# Altium integrated library Rosenberger P-SMP.IntLib: 13 symbols
Pins are listed as number, name and electrical type; pins without a type are passive.

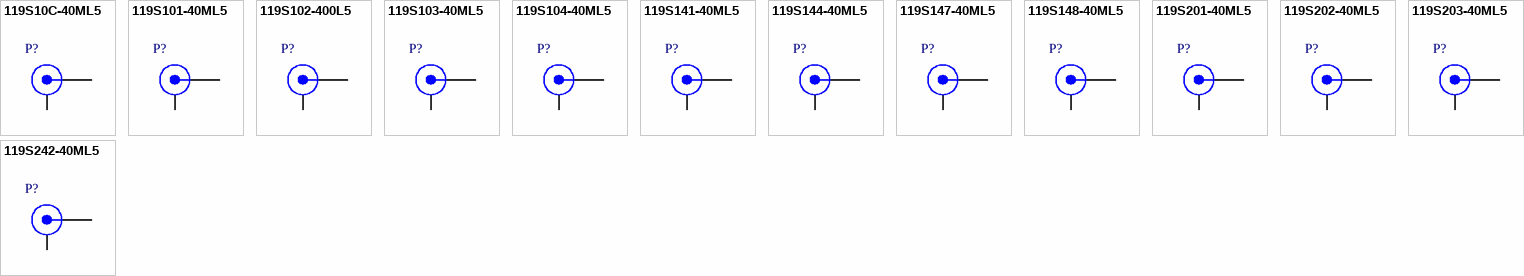
[diagram p0: symbols 119S10C-40ML5 to 119S242-40ML5]

## 119S10C-40ML5
designator P?
P-SMP Straight Plug, Pin in Paste, EMI Shield, High Power, Low PIM, Limited Detent, Small, Up to 10 GHz, -65 to 165 degC; PartNumber: 119S10C-40ML5; Design Note: Footprint in library is a generic example - only application specific footprint delivers High Performance; DatasheetVersion: a00; PackageVersion: a00; PackageReference: 119S10C-40ML5; PackageDescription: P-SMP Straight Plug, Pin in Paste, 9.62 x 9.591 x 5.48 mm; Detention force: limited detent; Mounting Technology: Pin-in-Paste; Lock-in Range: small; ComponentLink1Description: Manufacturer URL; ComponentLink1URL: http://www.rosenberger.de; ComponentLink2Description: Datasheet; ComponentLink2URL: http://rosenberger.de/ok/images/documents/db/119S10C-40ML5.pdf; ComponentLink3Description: Package Specification; ComponentLink3URL: http://rosenberger.de/ok/images/documents/db/119S10C-40ML5.pdf; ComponentLink4Description: Series Overview / Design Note; ComponentLink4URL: http://rosenberger.de/ok/images/documents/spez/119.pdf; ComponentLink5Description: Webshop / RFQ; ComponentLink5URL: http://www.rosenberger.com/en/contact/sales/
footprint ROS-119S10C-40ML5_V (P-SMP Straight Plug, Pin in Paste, 9.62x9.591x5.48mm, Rosenberger Recommended)
pins: 1, MH

## 119S101-40ML5
designator P?
P-SMP Straight Plug, High Power, Low PIM, Limited Detent, Small, Up to 10 GHz, -65 to 165 degC; PartNumber: 119S101-40ML5; Design Note: Footprint in library is a generic example - only application specific footprint delivers High Performance; DatasheetVersion: d00; PackageVersion: d00; PackageReference: 119S101-40ML5; PackageDescription: P-SMP Straight Plug, 7.00 x 7.00 x 5.48 mm; Detention force: limited detent; Mounting Technology: Surface Mount; Lock-in Range: small; ComponentLink1Description: Manufacturer URL; ComponentLink1URL: http://www.rosenberger.de; ComponentLink2Description: Datasheet; ComponentLink2URL: http://rosenberger.de/ok/images/documents/db/119S101-40ML5.pdf; ComponentLink3Description: Package Specification; ComponentLink3URL: http://rosenberger.de/ok/images/documents/db/119S101-40ML5.pdf; ComponentLink4Description: Series Overview / Design Note; ComponentLink4URL: http://rosenberger.de/ok/images/documents/spez/119.pdf; ComponentLink5Description: Webshop / RFQ; ComponentLink5URL: http://www.rosenberger.com/en/contact/sales/
footprint ROS-119S101-40ML5_V (P-SMP Straight Plug, 7.00x7.00x5.48mm, Rosenberger Recommended)
pins: 1, MP

## 119S102-400L5
designator P?
P-SMP Straight Plug, High Power, Low PIM, Limited Detent, Small, Up to 10 GHz, -65 to 165 degC; PartNumber: 119S102-400L5; Design Note: Footprint in library is a generic example - only application specific footprint delivers High Performance; DatasheetVersion: d00; PackageVersion: d00; PackageReference: 119S102-400L5; PackageDescription: P-SMP Straight Plug, 7.00 x 7.00 x 5.88 mm; Detention force: limited detent; Mounting Technology: Through Hole; Lock-in Range: small; ComponentLink1Description: Manufacturer URL; ComponentLink1URL: http://www.rosenberger.de; ComponentLink2Description: Datasheet; ComponentLink2URL: http://rosenberger.de/ok/images/documents/db/119S102-400L5.pdf; ComponentLink3Description: Package Specification; ComponentLink3URL: http://rosenberger.de/ok/images/documents/db/119S102-400L5.pdf; ComponentLink4Description: Series Overview / Design Note; ComponentLink4URL: http://rosenberger.de/ok/images/documents/spez/119.pdf; ComponentLink5Description: Webshop / RFQ; ComponentLink5URL: http://www.rosenberger.com/en/contact/sales/
footprint ROS-119S102-400L5_V (P-SMP Straight Plug, 7.00x7.00x5.88mm, Rosenberger Recommended)
pins: 1, MH

## 119S103-40ML5
designator P?
P-SMP Straight Plug, Pin in Paste, High Power, Low PIM, Limited Detent, Small, Up to 10 GHz, -65 to 165 degC; PartNumber: 119S103-40ML5; Design Note: Footprint in library is a generic example - only application specific footprint delivers High Performance; DatasheetVersion: f00; PackageVersion: f00; PackageReference: 119S103-40ML5; PackageDescription: P-SMP Straight Plug, Pin in Paste, 7.972 x 7.00 x 5.48 mm; Detention force: limited detent; Mounting Technology: Pin-in-Paste; Lock-in Range: small; ComponentLink1Description: Manufacturer URL; ComponentLink1URL: http://www.rosenberger.de; ComponentLink2Description: Datasheet; ComponentLink2URL: http://rosenberger.de/ok/images/documents/db/119S103-40ML5.pdf; ComponentLink3Description: Package Specification; ComponentLink3URL: http://rosenberger.de/ok/images/documents/db/119S103-40ML5.pdf; ComponentLink4Description: Series Overview / Design Note; ComponentLink4URL: http://rosenberger.de/ok/images/documents/spez/119.pdf; ComponentLink5Description: Webshop / RFQ; ComponentLink5URL: http://www.rosenberger.com/en/contact/sales/
footprint ROS-119S103-40ML5_V (P-SMP Straight Plug, Pin in Paste, 7.972x7.00x5.48mm, Rosenberger Recommended)
pins: 1, MH

## 119S104-40ML5
designator P?
P-SMP Straight Plug, High Power, Low PIM, Limited Detent, Small, Up to 10 GHz, -65 to 165 degC; PartNumber: 119S104-40ML5; Design Note: Footprint in library is a generic example - only application specific footprint delivers High Performance; DatasheetVersion: e00; PackageVersion: e00; PackageReference: 119S104-40ML5; PackageDescription: P-SMP Straight Plug, 7.00 x 7.00 x 5.50 mm; Detention force: limited detent; Mounting Technology: Surface Mount; Lock-in Range: small; ComponentLink1Description: Manufacturer URL; ComponentLink1URL: http://www.rosenberger.de; ComponentLink2Description: Datasheet; ComponentLink2URL: http://rosenberger.de/ok/images/documents/db/119S104-40ML5.pdf; ComponentLink3Description: Package Specification; ComponentLink3URL: http://rosenberger.de/ok/images/documents/db/119S104-40ML5.pdf; ComponentLink4Description: Series Overview / Design Note; ComponentLink4URL: http://rosenberger.de/ok/images/documents/spez/119.pdf; ComponentLink5Description: Webshop / RFQ; ComponentLink5URL: http://www.rosenberger.com/en/contact/sales/
footprint ROS-119S104-40ML5_V (P-SMP Straight Plug, 7.00x7.00x5.50mm, Rosenberger Recommended)
pins: 1, MP

## 119S141-40ML5
designator P?
P-SMP Straight Plug, High Power, Low PIM, Smooth Bore, Catchers-Mitt, Up to 10 GHz, -65 to 165 degC; PartNumber: 119S141-40ML5; Design Note: Footprint in library is a generic example - only application specific footprint delivers High Performance; DatasheetVersion: c00; PackageVersion: c00; PackageReference: 119S141-40ML5; PackageDescription: P-SMP Straight Plug, 7.00 x 7.00 x 5.50 mm; Detention force: smooth bore; Mounting Technology: Surface Mount; Lock-in Range: catchers-mitt; ComponentLink1Description: Manufacturer URL; ComponentLink1URL: http://www.rosenberger.de; ComponentLink2Description: Datasheet; ComponentLink2URL: http://rosenberger.de/ok/images/documents/db/119S141-40ML5.pdf; ComponentLink3Description: Package Specification; ComponentLink3URL: http://rosenberger.de/ok/images/documents/db/119S141-40ML5.pdf; ComponentLink4Description: Series Overview / Design Note; ComponentLink4URL: http://rosenberger.de/ok/images/documents/spez/119.pdf; ComponentLink5Description: Webshop / RFQ; ComponentLink5URL: http://www.rosenberger.com/en/contact/sales/
footprint ROS-119S141-40ML5_V (P-SMP Straight Plug, 7.00x7.00x5.50mm, Rosenberger Recommended)
pins: 1, MP

## 119S144-40ML5
designator P?
P-SMP Straight Plug, High Power, Low PIM, Smooth Bore, Catchers-Mitt, Up to 10 GHz, -65 to 165 degC; PartNumber: 119S144-40ML5; Design Note: Footprint in library is a generic example - only application specific footprint delivers High Performance; DatasheetVersion: g00; PackageVersion: g00; PackageReference: 119S144-40ML5; PackageDescription: P-SMP Straight Plug, 7.00 x 7.00 x 5.50 mm; Detention force: smooth bore; Mounting Technology: Surface Mount; Lock-in Range: catchers-mitt; ComponentLink1Description: Manufacturer URL; ComponentLink1URL: http://www.rosenberger.de; ComponentLink2Description: Datasheet; ComponentLink2URL: http://rosenberger.de/ok/images/documents/db/119S144-40ML5.pdf; ComponentLink3Description: Package Specification; ComponentLink3URL: http://rosenberger.de/ok/images/documents/db/119S144-40ML5.pdf; ComponentLink4Description: Series Overview / Design Note; ComponentLink4URL: http://rosenberger.de/ok/images/documents/spez/119.pdf; ComponentLink5Description: Webshop / RFQ; ComponentLink5URL: http://www.rosenberger.com/en/contact/sales/
footprint ROS-119S144-40ML5_V (P-SMP Straight Plug, 7.00x7.00x5.50mm, Rosenberger Recommended)
pins: 1, MP

## 119S147-40ML5
designator P?
P-SMP Straight Plug, Wide Lock-In Range, High Power, Low PIM, Smooth Bore, Catchers-Mitt, Up to 10 GHz, -65 to 165 degC; PartNumber: 119S147-40ML5; Design Note: Footprint in library is a generic example - only application specific footprint delivers High Performance; DatasheetVersion: c00; PackageVersion: c00; PackageReference: 119S147-40ML5; PackageDescription: P-SMP Straight Plug, 9.00 x 9.00 x 6.25 mm; Detention force: smooth bore; Mounting Technology: Surface Mount; Lock-in Range: catchers-mitt; ComponentLink1Description: Manufacturer URL; ComponentLink1URL: http://www.rosenberger.de; ComponentLink2Description: Datasheet; ComponentLink2URL: http://rosenberger.de/ok/images/documents/db/119S147-40ML5.pdf; ComponentLink3Description: Package Specification; ComponentLink3URL: http://rosenberger.de/ok/images/documents/db/119S147-40ML5.pdf; ComponentLink4Description: Series Overview / Design Note; ComponentLink4URL: http://rosenberger.de/ok/images/documents/spez/119.pdf; ComponentLink5Description: Webshop / RFQ; ComponentLink5URL: http://www.rosenberger.com/en/contact/sales/
footprint ROS-119S147-40ML5_V (P-SMP Straight Plug, 9.00x9.00x6.25mm, Rosenberger Recommended)
pins: 1, MP

## 119S148-40ML5
designator P?
P-SMP Straight Plug, Very Wide Lock-in Range, High Power, Low PIM, Smooth Bore, Super Large Catchers-Mitt, Up to 10 GHz, -65 to 165 degC; PartNumber: 119S148-40ML5; Design Note: Footprint in library is a generic example - only application specific footprint delivers High Performance; DatasheetVersion: 400; PackageVersion: 400; PackageReference: 119S148-40ML5; PackageDescription: P-SMP Straight Plug, Very Wide Lock-in Range, 11.50 x 11.50 x 7.40 mm; Detention force: smooth bore; Mounting Technology: Surface Mount; Lock-in Range: super large catchers-mitt; ComponentLink1Description: Manufacturer URL; ComponentLink1URL: http://www.rosenberger.de; ComponentLink2Description: Datasheet; ComponentLink2URL: http://rosenberger.de/ok/images/documents/db/119S148-40ML5.pdf; ComponentLink3Description: Package Specification; ComponentLink3URL: http://rosenberger.de/ok/images/documents/db/119S148-40ML5.pdf; ComponentLink4Description: Series Overview / Design Note; ComponentLink4URL: http://rosenberger.de/ok/images/documents/spez/119.pdf; ComponentLink5Description: Webshop / RFQ; ComponentLink5URL: http://www.rosenberger.com/en/contact/sales/
footprint ROS-119S148-40ML5_V (P-SMP Straight Plug, Very Wide Lock-in Range, 11.50x11.50x7.40mm,Rosenberger Recommended)
pins: 1, MP

## 119S201-40ML5
designator P?
P-SMP Right Angle Plug, Edge Mount Pin in Paste, High Power, Low PIM, Limited Detent, Small, Up to 10 GHz, -65 to 165 degC; PartNumber: 119S201-40ML5; Design Note: Footprint in library is a generic example - only application specific footprint delivers High Performance; DatasheetVersion: 300; PackageVersion: 300; PackageReference: 119S201-40ML5; PackageDescription: P-SMP Right Angle Plug,19.40 x 13.50 x 7.5 mm; Detention force: limited detent; Mounting Technology: Pin-in-Paste; Lock-in Range: small; ComponentLink1Description: Manufacturer URL; ComponentLink1URL: http://www.rosenberger.de; ComponentLink2Description: Datasheet; ComponentLink2URL: http://rosenberger.de/ok/images/documents/db/119S201-40ML5.pdf; ComponentLink3Description: Package Specification; ComponentLink3URL: http://rosenberger.de/ok/images/documents/db/119S201-40ML5.pdf; ComponentLink4Description: Series Overview / Design Note; ComponentLink4URL: http://rosenberger.de/ok/images/documents/spez/119.pdf; ComponentLink5Description: Webshop / RFQ; ComponentLink5URL: http://www.rosenberger.com/en/contact/sales/
footprint ROS-119S201-40ML5_V (P-SMP Right Angle Plug,19.40x13.50x7.5mm, Rosenberger Recommended)
pins: 1, MH

## 119S202-40ML5
designator P?
P-SMP Right Angle Plug, Edge Mount, High Power, Low PIM, Limited Detent, Small, Up to 10 GHz, -65 to 165 degC; PartNumber: 119S202-40ML5; Design Note 1: Footprint in library is a generic example - only application specific footprint delivers High Performance; Desgin Note 2: For more information about DRC setting, please look at following webpage, http://techdocs.altium.com/display/SCRT/Design+Rule+for+Edge-Mount+Connectors; DatasheetVersion: e00; PackageVersion: e00; PackageReference: 119S202-40ML5; PackageDescription: P-SMP Right Angle Plug, 9.00 x 7.50 x 6.00 mm; Detention force: limited detent; Mounting Technology: Surface Mount; Lock-in Range: small; ComponentLink1Description: Manufacturer URL; ComponentLink1URL: http://www.rosenberger.de; ComponentLink2Description: Datasheet; ComponentLink2URL: http://rosenberger.de/ok/images/documents/db/119S202-40ML5.pdf; ComponentLink3Description: Package Specification; ComponentLink3URL: http://rosenberger.de/ok/images/documents/db/119S202-40ML5.pdf; ComponentLink4Description: Series Overview / Design Note; ComponentLink4URL: http://rosenberger.de/ok/images/documents/spez/119.pdf; ComponentLink5Description: Webshop / RFQ; ComponentLink5URL: http://www.rosenberger.com/en/contact/sales/
footprint ROS-119S202-40ML5_V (P-SMP Right Angle Plug, 9.00x7.50x6.00mm, Rosenberger Recommended)
pins: 1, MP

## 119S203-40ML5
designator P?
P-SMP Right Angle Plug, High Power, Low PIM, Limited Detent, Small, Up to 10 GHz, -65 to 165 degC; PartNumber: 119S203-40ML5; Design Note: Footprint in library is a generic example - only application specific footprint delivers High Performance; DatasheetVersion: 500; PackageVersion: 500; PackageReference: 119S203-40ML5; PackageDescription: P-SMP Right Angle Plug, 12.65 x 8.00 x 11.55 mm; Detention force: limited detent; Mounting Technology: Surface Mount; Lock-in Range: small; ComponentLink1Description: Manufacturer URL; ComponentLink1URL: http://www.rosenberger.de; ComponentLink2Description: Datasheet; ComponentLink2URL: http://rosenberger.de/ok/images/documents/db/119S203-40ML5.pdf; ComponentLink3Description: Package Specification; ComponentLink3URL: http://rosenberger.de/ok/images/documents/db/119S203-40ML5.pdf; ComponentLink4Description: Series Overview / Design Note; ComponentLink4URL: http://rosenberger.de/ok/images/documents/spez/119.pdf; ComponentLink5Description: Webshop / RFQ; ComponentLink5URL: http://www.rosenberger.com/en/contact/sales/
footprint ROS-119S203-40ML5_V (P-SMP Right Angle Plug, 12.65x8.00x11.55mm, Rosenberger Recommended)
pins: 1, MP

## 119S242-40ML5
designator P?
P-SMP Right Angle Plug, Edge Mount, High Power, Low PIM, Smooth Bore, Catchers-Mitt, Up to 10 GHz, -65 to 165 degC; PartNumber: 119S242-40ML5; Design Note 1: Footprint in library is a generic example - only application specific footprint delivers High Performance; Desgin Note 2: For more information about DRC setting, please look at following webpage, http://techdocs.altium.com/display/SCRT/Design+Rule+for+Edge-Mount+Connectors; DatasheetVersion: d00; PackageVersion: d00; PackageReference: 119S242-40ML5; PackageDescription: P-SMP Right Angle Plug, Edge Mount, 9.01 x 8.441 x 4.00 mm; Detention force: smooth bore; Mounting Technology: Surface Mount; Lock-in Range: catchers-mitt; ComponentLink1Description: Manufacturer URL; ComponentLink1URL: http://www.rosenberger.de; ComponentLink2Description: Datasheet; ComponentLink2URL: http://rosenberger.de/ok/images/documents/db/119S242-40ML5.pdf; ComponentLink3Description: Package Specification; ComponentLink3URL: http://rosenberger.de/ok/images/documents/db/119S242-40ML5.pdf; ComponentLink4Description: Series Overview / Design Note; ComponentLink4URL: http://rosenberger.de/ok/images/documents/spez/119.pdf; ComponentLink5Description: Webshop / RFQ; ComponentLink5URL: http://www.rosenberger.com/en/contact/sales/
footprint ROS-119S242-40ML5_V (P-SMP Right Angle Plug, Edge Mount, 9.01x8.441x4.00mm, Rosenberger Recommended)
pins: 1, MP